# EAGLE library part LSI2064E (library lattice)
LATTICE PROGRAMMABLE DEVICE
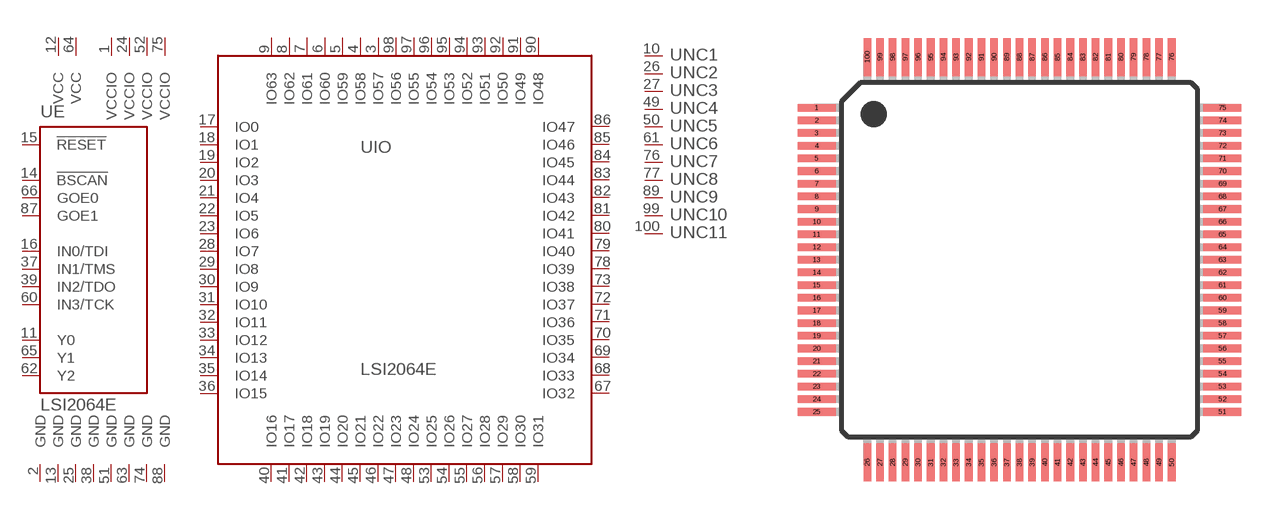
[diagram p2: symbol with the pads of TQFP100; footprint TQFP100]

Designator prefix U; gates E=LSI2064E IO=LSI2064 V1=VCC V2=VCC G1=GND G2=GND G3=GND G4=GND G5=GND G6=GND G7=GND G8=GND VO1=VCCIO VO2=VCCIO VO3=VCCIO VO4=VCCIO NC1=NC NC2=NC NC3=NC NC4=NC NC5=NC NC6=NC NC7=NC NC8=NC NC9=NC NC10=NC NC11=NC

## LSI2064E  [TQFP100]
1  VO1:VCCIO  pwr
2  G1:GND  pwr
3  IO:IO57
4  IO:IO58
5  IO:IO59
6  IO:IO60
7  IO:IO61
8  IO:IO62
9  IO:IO63
10  NC1:NC  nc
11  E:Y0  in
12  V1:VCC  pwr
13  G2:GND  pwr
14  E:!BSCAN!  in
15  E:!RESET!  in
16  E:IN0/TDI  in
17  IO:IO0
18  IO:IO1
19  IO:IO2
20  IO:IO3
21  IO:IO4
22  IO:IO5
23  IO:IO6
24  VO2:VCCIO  pwr
25  G3:GND  pwr
26  NC2:NC  nc
27  NC3:NC  nc
28  IO:IO7
29  IO:IO8
30  IO:IO9
31  IO:IO10
32  IO:IO11
33  IO:IO12
34  IO:IO13
35  IO:IO14
36  IO:IO15
37  E:IN1/TMS  in
38  G4:GND  pwr
39  E:IN2/TDO  in
40  IO:IO16
41  IO:IO17
42  IO:IO18
43  IO:IO19
44  IO:IO20
45  IO:IO21
46  IO:IO22
47  IO:IO23
48  IO:IO24
49  NC4:NC  nc
50  NC5:NC  nc
51  G5:GND  pwr
52  VO3:VCCIO  pwr
53  IO:IO25
54  IO:IO26
55  IO:IO27
56  IO:IO28
57  IO:IO29
58  IO:IO30
59  IO:IO31
60  E:IN3/TCK  in
61  NC6:NC  nc
62  E:Y2  in
63  G6:GND  pwr
64  V2:VCC  pwr
65  E:Y1  in
66  E:GOE0  in
67  IO:IO32
68  IO:IO33
69  IO:IO34
70  IO:IO35
71  IO:IO36
72  IO:IO37
73  IO:IO38
74  G7:GND  pwr
75  VO4:VCCIO  pwr
76  NC7:NC  nc
77  NC8:NC  nc
78  IO:IO39
79  IO:IO40
80  IO:IO41
81  IO:IO42
82  IO:IO43
83  IO:IO44
84  IO:IO45
85  IO:IO46
86  IO:IO47
87  E:GOE1  in
88  G8:GND  pwr
89  NC9:NC  nc
90  IO:IO48
91  IO:IO49
92  IO:IO50
93  IO:IO51
94  IO:IO52
95  IO:IO53
96  IO:IO54
97  IO:IO55
98  IO:IO56
99  NC10:NC  nc
100  NC11:NC  nc

## Footprint TQFP100 (pad centres in mm)
Plastic Thin Quad Flat Pack
smd 1.5 x 0.3: 1 -8,6; 2 -8,5.5; 3 -8,5; 4 -8,4.5; 5 -8,4; 6 -8,3.5; 7 -8,3; 8 -8,2.5; 9 -8,2; 10 -8,1.5; 11 -8,1; 12 -8,0.5; 13 -8,0; 14 -8,-0.5; 15 -8,-1; 16 -8,-1.5; 17 -8,-2; 18 -8,-2.5; 19 -8,-3; 20 -8,-3.5; 21 -8,-4; 22 -8,-4.5; 23 -8,-5; 24 -8,-5.5; 25 -8,-6; 51 8,-6; 52 8,-5.5; 53 8,-5; 54 8,-4.5; 55 8,-4; 56 8,-3.5; 57 8,-3; 58 8,-2.5; 59 8,-2; 60 8,-1.5; 61 8,-1; 62 8,-0.5; 63 8,0; 64 8,0.5; 65 8,1; 66 8,1.5; 67 8,2; 68 8,2.5; 69 8,3; 70 8,3.5; 71 8,4; 72 8,4.5; 73 8,5; 74 8,5.5; 75 8,6
smd 0.3 x 1.5: 26 -6,-8; 27 -5.5,-8; 28 -5,-8; 29 -4.5,-8; 30 -4,-8; 31 -3.5,-8; 32 -3,-8; 33 -2.5,-8; 34 -2,-8; 35 -1.5,-8; 36 -1,-8; 37 -0.5,-8; 38 0,-8; 39 0.5,-8; 40 1,-8; 41 1.5,-8; 42 2,-8; 43 2.5,-8; 44 3,-8; 45 3.5,-8; 46 4,-8; 47 4.5,-8; 48 5,-8; 49 5.5,-8; 50 6,-8; 76 6,8; 77 5.5,8; 78 5,8; 79 4.5,8; 80 4,8; 81 3.5,8; 82 3,8; 83 2.5,8; 84 2,8; 85 1.5,8; 86 1,8; 87 0.5,8; 88 0,8; 89 -0.5,8; 90 -1,8; 91 -1.5,8; 92 -2,8; 93 -2.5,8; 94 -3,8; 95 -3.5,8; 96 -4,8; 97 -4.5,8; 98 -5,8; 99 -5.5,8; 100 -6,8